# Altium schematic symbol library CH340.SCHLIB: 75 symbols
Pins are listed as number, name and electrical type; pins without a type are passive.

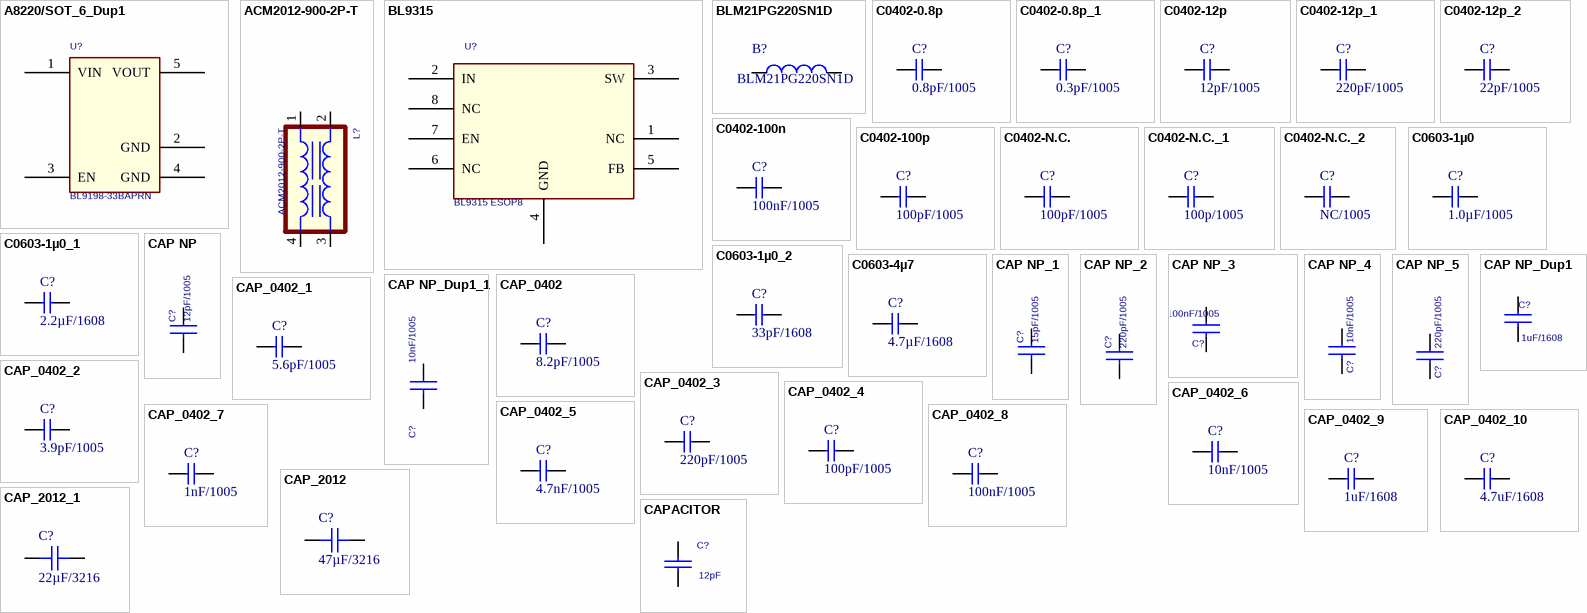
[diagram p0: symbols A8220/SOT_6_Dup1 to CAPACITOR]

## A8220/SOT_6_Dup1
designator U?, comment BL9198-33BAPRN
footprint SOT23-DBV
pins: 1 VIN, 2 GND, 3 EN, 4 GND, 5 VOUT

## ACM2012-900-2P-T
designator L?
footprint ACM2012-900-2P-T
pins: 1, 2, 3, 4

## BL9315
designator U?, comment BL9315 ESOP8
3A StepDown Converter
footprint SOIC8P-50MIL(EXT.PAD)
pins: 1 NC, 2 IN, 3 SW, 4 GND, 5 FB, 6 NC, 7 EN, 8 NC

## BLM21PG220SN1D
designator B?
footprint R2012
pins: 1, 2

## C0402-0.8p
designator C?, comment 0.8pF/1005
Capacitor, NP0, ±5%; Value: 0.8pF/1005
footprint CAPC1005X04L
pins: 1, 2

## C0402-0.8p_1
designator C?, comment 0.3pF/1005
Capacitor, NP0, ±5%; Value: 0.3pF/1005
footprint CAPC1005X04L
pins: 1, 2

## C0402-12p
designator C?, comment 12pF/1005
Capacitor, NP0, ±2%; Value: 12pF/1005
footprint CAPC1005X04L
pins: 1, 2

## C0402-12p_1
designator C?, comment 220pF/1005
Capacitor, NP0, ±2%; Value: 220pF/1005
footprint CAPC1005X04L
pins: 1, 2

## C0402-12p_2
designator C?, comment 22pF/1005
Capacitor, NP0, ±2%; Value: 22pF/1005
footprint CAPC1005X04L
pins: 1, 2

## C0402-100n
designator C?, comment 100nF/1005
Capacitor, X7R, ±10%; Value: 100nF/1005
footprint CAPC1005X04L
pins: 1, 2

## C0402-100p
designator C?, comment 100pF/1005
Capacitor, NP0, ±5%; Value: 100pF/1005
footprint CAPC1005X04L
pins: 1, 2

## C0402-N.C.
designator C?, comment 100pF/1005
Not mounted; Value: 100pF/1005
footprint CAPC1005X04L
pins: 1, 2

## C0402-N.C._1
designator C?, comment 100p/1005
Not mounted; Value: 100p/1005
footprint CAPC1005X04L
pins: 1, 2

## C0402-N.C._2
designator C?, comment NC/1005
Not mounted; Value: NC/1005
footprint CAPC1005X04L
pins: 1, 2

## C0603-1µ0
designator C?, comment 1.0µF/1005
Capacitor, X7R, ±10%; Value: 1.0µF/1005
footprint CAPC1005X04L
pins: 1, 2

## C0603-1µ0_1
designator C?, comment 2.2µF/1608
Capacitor, X7R, ±10%; Value: 2.2µF/1608
footprint CAPC1608X06L
pins: 1, 2

## C0603-1µ0_2
designator C?, comment 33pF/1608
Capacitor, X7R, ±10%; Value: 33pF/1608
footprint CAPC1608X06L
pins: 1, 2

## C0603-4µ7
designator C?, comment 4.7µF/1608
Capacitor, X5R, ±10%; Value: 4.7µF/1608
footprint CAPC1608X06L
pins: 1, 2

## CAP NP
designator C?, comment 12pF/1005
Value: 12pF/1005
footprint CAPC1005X04L
pins: 1, 2

## CAP NP_1
designator C?, comment 15pF/1005
Value: 15pF/1005
footprint CAPC1005X04L
pins: 1, 2

## CAP NP_2
designator C?, comment 220pF/1005
Value: 220pF/1005
footprint CAPC1005X04L
pins: 1, 2

## CAP NP_3
designator C?, comment 100nF/1005
footprint CAPC1005X04L
pins: 1, 2

## CAP NP_4
designator C?, comment 10nF/1005
footprint CAPC1005X04L
pins: 1, 2

## CAP NP_5
designator C?, comment 220pF/1005
footprint CAPC1005X04L
pins: 1, 2

## CAP NP_Dup1
designator C?, comment 1uF/1608
SIGNAL_MODEL: DEFAULT_CAPACITOR_1368.16pF_1_2
footprint CAPC1608X06L
pins: 1, 2

## CAP NP_Dup1_1
designator C?, comment 10nF/1005
footprint CAPC1005X04L
pins: 1, 2

## CAP_0402
designator C?, comment 8.2pF/1005
Capacitor, NP0, ±0.1pF; Value: 8.2pF/1005
footprint CAPC1005X04L
pins: 1, 2

## CAP_0402_1
designator C?, comment 5.6pF/1005
Capacitor, NP0, ±0.1pF; Value: 5.6pF/1005
footprint CAPC1005X04L
pins: 1, 2

## CAP_0402_2
designator C?, comment 3.9pF/1005
Capacitor, NP0, ±0.1pF; Value: 3.9pF/1005
footprint CAPC1005X04L
pins: 1, 2

## CAP_0402_3
designator C?, comment 220pF/1005
Capacitor, NP0, ±0.1pF; Value: 220pF/1005
footprint CAPC1005X04L
pins: 1, 2

## CAP_0402_4
designator C?, comment 100pF/1005
Capacitor, NP0, ±0.1pF; Value: 100pF/1005
footprint CAPC1005X04L
pins: 1, 2

## CAP_0402_5
designator C?, comment 4.7nF/1005
Capacitor, NP0, ±0.1pF; Value: 4.7nF/1005
footprint CAPC1005X04L
pins: 1, 2

## CAP_0402_6
designator C?, comment 10nF/1005
Capacitor, NP0, ±0.1pF; Value: 10nF/1005
footprint CAPC1005X04L
pins: 1, 2

## CAP_0402_7
designator C?, comment 1nF/1005
Capacitor, NP0, ±0.1pF; Value: 1nF/1005
footprint CAPC1005X04L
pins: 1, 2

## CAP_0402_8
designator C?, comment 100nF/1005
Capacitor, NP0, ±0.1pF; Value: 100nF/1005
footprint CAPC1005X04L
pins: 1, 2

## CAP_0402_9
designator C?, comment 1uF/1608
Capacitor, NP0, ±0.1pF; Value: 1uF/1608
footprint CAPC1608X06L
pins: 1, 2

## CAP_0402_10
designator C?, comment 4.7uF/1608
Capacitor, NP0, ±0.1pF; Value: 4.7uF/1608
footprint CAPC1608X06L
pins: 1, 2

## CAP_2012
designator C?, comment 47µF/3216
Capacitor, X5R, ±10%; Value: 47µF/3216
footprint C3216-LJS
pins: 1, 2

## CAP_2012_1
designator C?, comment 22µF/3216
Capacitor, X5R, ±10%; Value: 22µF/3216
footprint C3216-LJS
pins: 1, 2

## CAPACITOR
designator C?, comment 12pF
CAPACITOR, CERAMIC C0G/NP0, 12pF, 50V, -5%/+5%, -55DEGC/+125DEGC, 0402, SMD; Vendor Part Status: ACTIVE; Vendor Part Number: GRM1555C1H120JA01D; Part Number: 02-07617; Manufacturer: MANUFACTURER SELECTION; MPN: CAPACITOR_0402_12pF_C0G/NP0_M_+/-5%_50V; VOLTAGE: CMAX; CURRENT: CIMAX; KNEE: CBMAX; PSpiceTemplate: C^@REFDES %1 %2 ?TOLERANCE|C^@REFDES| @VALUE ?IC/IC=@IC/ TC=@TC1,@TC2 ?TOLERANCE|\n.model C^@REFDES CAP C=1 DEV=@TOLERANCE%|; DIST: FLAT; SLOPE: CSMAX; MAX_TEMP: CTMAX; TC1: 0; CLASS: DISCRETE; Vendor: MURATA; BU Name: TEXAS INSTRUMENTS NORWAY; Old Footprint: CAPC1005X60N; PCB Package: 0402; Max Tol: +5%; Min Tol: -5%; NOTE Status: PREFERRED; Lead Time: 12; Budget Price: 0.007; Budget Currency: EUR; Definied Quality: INDUSTRIAL; Packing Size: 10000; Packing Type: TAPE_&_REEL; TC2: 0; Value: 12pF; Country of Origin: PHILIPPINES; Revision: R000; Mounting Type: SMD; Part Type: CAPACITOR\CERAMIC\0402\STANDARD; Max Oper Temp: +125DEGC; Min Oper Temp: -55DEGC; Rtd Voltage: 50V; Capacitance: 12pF; Dielectric Type: C0G/NP0; MPN Status: ACTIVE; RoHS Status: ROHS_COMPLIANT; LifeCycle Status: ACTIVE; Last Time Buy: N/A; WEIGHT: 0.0016g; Esd Level: N/A; MTBF: N/A; MTBF Standard: N/A; MSL: N/A; Datasheet URL 1: http://psearch.murata.com/capacitor/product/GRM1555C1H120JA01%23.pdf; Datasheet URL 2: http://search.murata.co.jp/Ceramy/image/img/w_hinm/L0005E.pdf; AutoDoc File: https://notefied-dynamic-precision.com/DB/Apps/Desktop/Item/Object.aspx?id=113345
simulation model CAPACITOR
footprint CAPC1005X04L
pins: 1, 2
1 alternate drawing of the same symbol

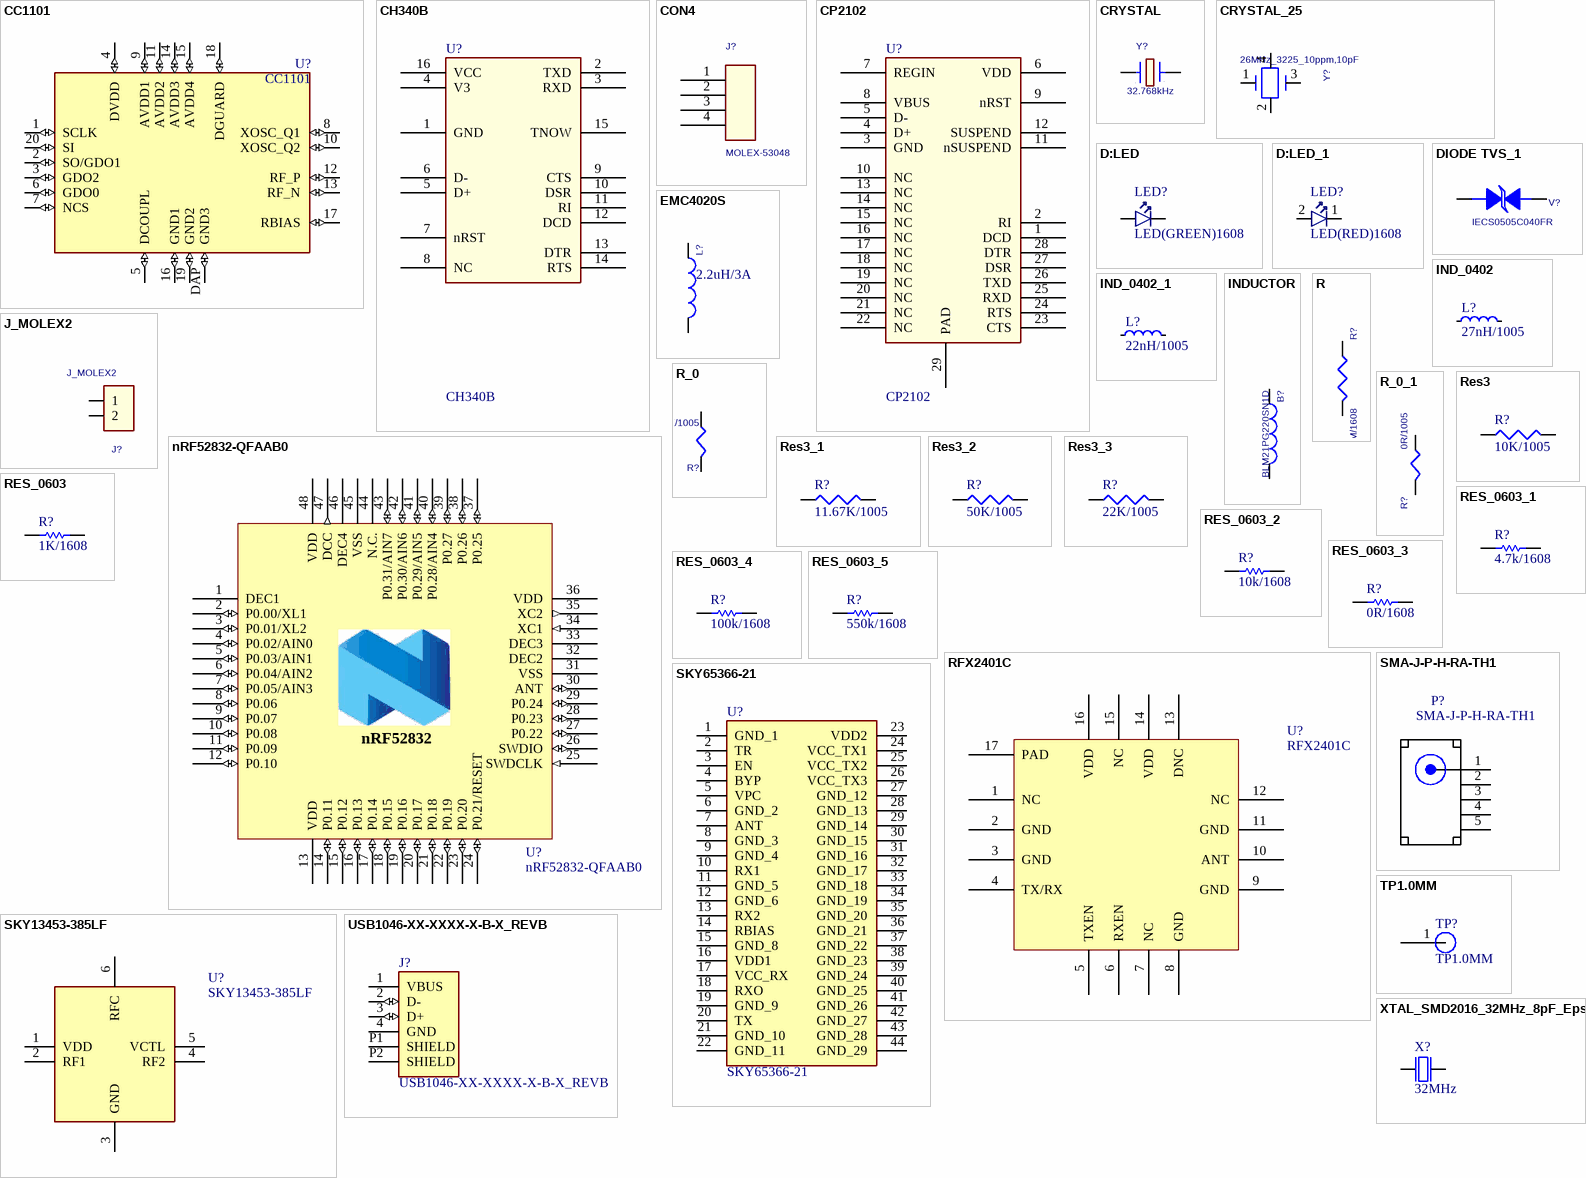
[diagram p1: symbols CC1101 to XTAL_SMD2016_32MHz_8pF_Epson]

## CC1101
designator U?
IC RF TxRx Only General ISM < 1GHz 300MHz ~ 348MHz, 387MHz ~ 464MHz, 779MHz ~ 928MHz 20-VFQFN Exposed Pad; MF: Texas Instruments; SnapEDA_Link: https://www.snapeda.com/parts/CC1101/Texas%20Instruments/view-part/567576/?ref=snap; Package: VFQFN-20 Microsemi; Price: None; MP: CC1101; Availability: Unavailable; Value: *
footprint VQFN-N20
pins: 1 SCLK (io), 2 SO/GDO1 (io), 3 GDO2 (io), 4 DVDD (io), 5 DCOUPL (io), 6 GDO0 (io), 7 NCS (io), 8 XOSC_Q1 (io), 9 AVDD1 (io), 10 XOSC_Q2 (io), 11 AVDD2 (io), 12 RF_P (io), 13 RF_N (io), 14 AVDD3 (io), 15 AVDD4 (io), 16 GND1 (io), 17 RBIAS (io), 18 DGUARD (io), 19 GND2 (io), 20 SI (io), DAP GND3 (io)

## CH340B
designator U?
footprint SOIC127P780X200-16N
pins: 1 GND (power), 2 TXD, 3 RXD, 4 V3, 5 D+, 6 D-, 7 nRST, 8 NC, 9 CTS, 10 DSR, 11 RI, 12 DCD, 13 DTR, 14 RTS, 15 TNOW (power), 16 VCC (power)

## CON4
designator J?, comment MOLEX-53048
Value: MOLEX-53048
footprint 5267-04A-2.5P
pins: 1, 2, 3, 4

## CP2102
designator U?
footprint QFN50P500X500X100-29V1L
pins: 1 DCD, 2 RI, 3 GND (power), 4 D+, 5 D-, 6 VDD (power), 7 REGIN (power), 8 VBUS, 9 nRST, 10 NC, 11 nSUSPEND, 12 SUSPEND, 13 NC, 14 NC, 15 NC, 16 NC, 17 NC, 18 NC, 19 NC, 20 NC, 21 NC, 22 NC, 23 CTS, 24 RTS, 25 RXD, 26 TXD, 27 DSR, 28 DTR, 29 PAD

## CRYSTAL
designator Y?, comment 32.768kHz
CRYSTAL, RESONATOR, 32.768kHz, -20PPM/+20PPM, -40DEGC/+85DEGC, SMD; MPN Status: ACTIVE; MPN: FC-135 32.7680KA-AG0; Manufacturer: EPSON; Part Number: 12-00546; Packing Type: TAPE_&_REEL; Packing Size: 1000; Definied Quality: INDUSTRIAL; Budget Currency: USD; Budget Price: 1.25375; Lead Time: 10; NOTE Status: PREFERRED; Capacitance: 7pF; Min Tol: -20PPM; Max Tol: +20PPM; Old Footprint: XTAL_FC-135N; ALT_SYMBOLS: XTAL_FC-135L,XTAL_FC-135M; FPLIST: XTAL_FC-135N,XTAL_FC-135L,XTAL_FC-135M; AutoDoc File: http://notefied-dynamic-precision.com/DB/Apps/Desktop/Item/Object.aspx?id=91966; Datasheet URL 2: http://www.eea.epson.com/portal/pls/portal/docs/1/1525451.PDF; Datasheet URL 1: http://www.eea.epson.com/portal/pls/portal/docs/1/1525528.PDF; MSL: N/A; MTBF Standard: N/A; MTBF: N/A; Esd Level: N/A; WEIGHT: N/A; Last Time Buy: N/A; RoHS Status: ROHS_COMPLIANT; Frequency: 32.768kHz; Min Oper Temp: -40DEGC; Max Oper Temp: +85DEGC; Part Type: CRYSTAL\OSCILLATOR\MEMS; Mounting Type: SMD; Revision: R001
footprint XTAL_3215
pins: 1, 2

## CRYSTAL_25
designator Y?, comment 26MHz_3225_10ppm,10pF
26Mhz NX3225GA
footprint BT-XTAL_3225
pins: 1, 2, 3, 4

## D:LED
designator LED?, comment LED(GREEN)1608
LED SMARTLED GREEN 570NM 0603; Value: LED(GREEN)1608
footprint LED_0603_G
pins: 1 C, 2 A

## D:LED_1
designator LED?, comment LED(RED)1608
LED SMARTLED GREEN 570NM 0603; Value: LED(RED)1608
footprint LED_0603_G
pins: 1 C, 2 A

## DIODE TVS_1
designator V?, comment IECS0505C040FR
footprint RESC1005X04L
pins: 1 ANODE, 2 CATHODE

## EMC4020S
designator L?  value 2.2uH/3A  (hidden comment: EMC4020S)
Power Inductor
footprint EMC4020S_INDUCTOR_LJS
pins: 1, 2

## IND_0402
designator L?, comment 27nH/1005
Inductor, 320mA, ±5%; Part Number: L0402-15n; Manufacturer: Taiyo Yuden; Manufacturer Part Number: HK100515NJ-T; 2nd source part number: 658-1328; Note: High frequency chip inductor ±10%; Artikkelnr Noca: 33029323; Artikkelnr Simpro: N.A.; LatestRevisionDate: 2012-09-19; Pin Count: 2; Publisher: Nordic Semiconductor; Published: 2010-07-12; Value: 27nH/1005; Supplier: Digi-Key; Datasheet: http://www.yuden.co.jp/productdata/catalog/en/mlci04_e.pdf; Supplier part number: 587-1521-1-ND; 2nd source Supplier: Farnell; Footprint Doc: 0402
footprint INDC1005X04L
pins: 1, 2

## IND_0402_1
designator L?, comment 22nH/1005
Inductor, 320mA, ±5%; Part Number: L0402-15n; Manufacturer: Taiyo Yuden; Manufacturer Part Number: HK100515NJ-T; 2nd source part number: 658-1328; Note: High frequency chip inductor ±10%; Artikkelnr Noca: 33029323; Artikkelnr Simpro: N.A.; LatestRevisionDate: 2012-09-19; Pin Count: 2; Publisher: Nordic Semiconductor; Published: 2010-07-12; Value: 22nH/1005; Supplier: Digi-Key; Datasheet: http://www.yuden.co.jp/productdata/catalog/en/mlci04_e.pdf; Supplier part number: 587-1521-1-ND; 2nd source Supplier: Farnell; Footprint Doc: 0402
footprint INDC1005X04L
pins: 1, 2

## INDUCTOR
designator B?, comment BLM21PG220SN1D
footprint R2012
pins: 1, 2

## J_MOLEX2
designator J?
footprint 5267-02A-2.5P
pins: 1, 2

## nRF52832-QFAAB0
designator U?
Multi-protocol Bluetooth Low Energy, ANT and 2.4GHz proprietary system-on-chip; Manufacturer: Nordic Semiconductor; Artikkelnr Noca: 15079334; Artikkelnr Simpro: N.A.; Part Number: nRF52832-QFAAB0; Manufacturer Part Number: nRF52832-QFAAB0; Datasheet: *; LatestRevisionDate: 2016-08-25; Pin Count: 48; Publisher: Nordic Semiconductor; Published: 2016-08-25; Value: nRF52832-QFAAB0; Note: *; Supplier: Nordic Semiconductor; Supplier part number: nRF52832-QFAAB0; 2nd source Supplier: *; 2nd source part number: *; Footprint Doc: QFN-48
footprint QFN40P600X600X90-48N
pins: 1 DEC1 (power), 2 P0.00/XL1 (io), 3 P0.01/XL2 (io), 4 P0.02/AIN0 (io), 5 P0.03/AIN1 (io), 6 P0.04/AIN2 (io), 7 P0.05/AIN3 (io), 8 P0.06 (io), 9 P0.07 (io), 10 P0.08 (io), 11 P0.09 (io), 12 P0.10 (io), 13 VDD (power), 14 P0.11 (io), 15 P0.12 (io), 16 P0.13 (io), 17 P0.14 (io), 18 P0.15 (io), 19 P0.16 (io), 20 P0.17 (io), 21 P0.18 (io), 22 P0.19 (io), 23 P0.20 (io), 24 P0.21/RESET (io), 25 SWDCLK (in), 26 SWDIO (io), 27 P0.22 (io), 28 P0.23 (io), 29 P0.24 (io), 30 ANT (io), 31 VSS (power), 32 DEC2 (power), 33 DEC3 (power), 34 XC1 (in), 35 XC2 (out), 36 VDD (power), 37 P0.25 (io), 38 P0.26 (io), 39 P0.27 (io), 40 P0.28/AIN4 (io), 41 P0.29/AIN5 (io), 42 P0.30/AIN6 (io), 43 P0.31/AIN7 (io), 44 N.C. (power), 45 VSS (power), 46 DEC4 (power), 47 DCC (out), 48 VDD (power), 49 GND (power) hidden to GND
text: nRF52832

## R
designator R?, comment 1M/1608
footprint R1608-LJS
pins: 1, 2

## R_0
designator R?, comment 56K/1005
footprint RESC1005X04L
pins: 1, 2

## R_0_1
designator R?, comment 0R/1005
footprint RESC1005X04L
pins: 1, 2

## Res3
designator R?, comment 10K/1005
Resistor; Value: 10K/1005
simulation model RESISTOR (Resistor)
signal-integrity model Res
footprint RESC1005X04L
pins: 1, 2

## Res3_1
designator R?, comment 11.67K/1005
Resistor; Value: 11.67K/1005
simulation model RESISTOR (Resistor)
signal-integrity model Res
footprint RESC1005X04L
pins: 1, 2

## Res3_2
designator R?, comment 50K/1005
Resistor; Value: 50K/1005
simulation model RESISTOR (Resistor)
signal-integrity model Res
footprint RESC1005X04L
pins: 1, 2

## Res3_3
designator R?, comment 22K/1005
Resistor; Value: 22K/1005
simulation model RESISTOR (Resistor)
signal-integrity model Res
footprint RESC1005X04L
pins: 1, 2

## RES_0603
designator R?, comment 1K/1608
Not mounted; Value: 1K/1608
footprint RESC1608X06L
pins: 1, 2

## RES_0603_1
designator R?, comment 4.7k/1608
Not mounted; Value: 4.7k/1608
footprint RESC1608X06L
pins: 1, 2

## RES_0603_2
designator R?, comment 10k/1608
Not mounted; Value: 10k/1608
footprint RESC1608X06L
pins: 1, 2

## RES_0603_3
designator R?, comment 0R/1608
Not mounted; Value: 0R/1608
footprint RESC1608X06L
pins: 1, 2

## RES_0603_4
designator R?, comment 100k/1608
Not mounted; Value: 100k/1608
footprint RESC1608X06L
pins: 1, 2

## RES_0603_5
designator R?, comment 550k/1608
Not mounted; Value: 550k/1608
footprint RESC1608X06L
pins: 1, 2

## RFX2401C
designator U?
3x3 QFN Skyworks
footprint RFX2401C
pins: 1 NC, 2 GND, 3 GND, 4 TX/RX, 5 TXEN, 6 RXEN, 7 NC, 8 GND, 9 GND, 10 ANT, 11 GND, 12 NC, 13 DNC, 14 VDD, 15 NC, 16 VDD, 17 PAD

## SKY13453-385LF
designator U?
Switch; Manufacturer_Name: Skyworks; Datasheet Link: http://www.skyworksinc.com/uploads/documents/SKY13453_385LF_202830E.pdf; Height: 0.5mm; Manufacturer_Part_Number: SKY13453-385LF; Mouser Part Number: 873-SKY13453-385LF; Mouser Price/Stock: https://www.mouser.com/Search/Refine.aspx?Keyword=873-SKY13453-385LF
footprint SKY13453385LF
pins: 1 VDD, 2 RF1, 3 GND, 4 RF2, 5 VCTL, 6 RFC

## SKY65366-21
designator U?
Integrated Circuit; Manufacturer_Name: Skyworks; Manufacturer_Part_Number: SKY65313-21; Datasheet Link: https://componentsearchengine.com/Datasheets/1/SKY65313-21.pdf; Height: 0.9mm; Mouser Part Number: 873-SKY65313-21; Mouser Price/Stock: https://www.mouser.com/Search/Refine.aspx?Keyword=873-SKY65313-21
footprint SKY6531321
pins: 1 GND_1, 2 TR, 3 EN, 4 BYP, 5 VPC, 6 GND_2, 7 ANT, 8 GND_3, 9 GND_4, 10 RX1, 11 GND_5, 12 GND_6, 13 RX2, 14 RBIAS, 15 GND_8, 16 VDD1, 17 VCC_RX, 18 RXO, 19 GND_9, 20 TX, 21 GND_10, 22 GND_11, 23 VDD2, 24 VCC_TX1, 25 VCC_TX2, 26 VCC_TX3, 27 GND_12, 28 GND_13, 29 GND_14, 30 GND_15, 31 GND_16, 32 GND_17, 33 GND_18, 34 GND_19, 35 GND_20, 36 GND_21, 37 GND_22, 38 GND_23, 39 GND_24, 40 GND_25, 41 GND_26, 42 GND_27, 43 GND_28, 44 GND_29

## SMA-J-P-H-RA-TH1
designator P?
Conn SMA F 0Hz to 6GHz 50Ohm Solder RA Thru-Hole Gold Tray; MF: Samtec Inc.; Package: None; MP: SMA-J-P-H-RA-TH1; Price: None; Availability: Unavailable; SnapEDA_Link: https://www.snapeda.com/parts/SMA-J-P-H-RA-TH1/Samtec%20Inc./view-part/?ref=snap; Value: *
footprint SAMTEC_SMA-J-P-H-RA-TH1
pins: 1 SIGNAL, 2 GND (power), 3 GND (power), 4 GND (power), 5 GND (power)

## TP1.0MM
designator TP?
Test
footprint TP0.8 (Test Point Land 0.5 SMD)
pins: 1

## USB1046-XX-XXXX-X-B-X_REVB
designator J?
USB-A _USB TYPE-A_ USB 2.0 Receptacle Connector 4 Position Surface Mount, Through Hole; MF: Global Connector Technology; MP: USB1046-GF-0190-L-B-A; Package: None; Value: *; Availability: Unavailable; SnapEDA_Link: https://www.snapeda.com/parts/USB1046-GF-0190-L-B-A/Global%20Connector%20Technology/view-part/812887/?ref=snap; Price: None
footprint USB-A_HW-UAF-12 (USB-A type Connnector)
pins: 1 VBUS (power), 2 D- (io), 3 D+ (io), 4 GND (power), P1 SHIELD (power), P2 SHIELD (power)

## XTAL_SMD2016_32MHz_8pF_Epson
designator X?, comment 32MHz
XTAL SMD 2016, 32MHz, Cl=8pF, Tol: ±10ppm, Stab: ±10ppm; Part Number: XTAL_SMD2016_32MHz_8pF_Epson; Manufacturer: Epson Toyocom; Manufacturer Part Number: Q22FA12800025; Note: XTAL SMD 32.000MHz; Artikkelnr Noca: 22019238; Artikkelnr Simpro: N.A.; Datasheet: http://www.epsondevice.com/docs/qd/en/DownloadServlet?id=ID000449; LatestRevisionDate: 2014-11-27; Pin Count: 4; Publisher: Nordic Semiconductor; Published: 2012-03-09; Value: 32MHz; Supplier: Farnell; Supplier part number: 171-2806; 2nd source Supplier: *; 2nd source part number: *; Footprint Doc: XTAL_2016
footprint BT-XTAL_2016
pins: 1 inp, 2 GND hidden to GND, 3 out, 4 GND hidden to GND